# Altium schematic symbol library keypad_encoder.SchLib: 6 symbols
Pins are listed as number, name and electrical type; pins without a type are passive.

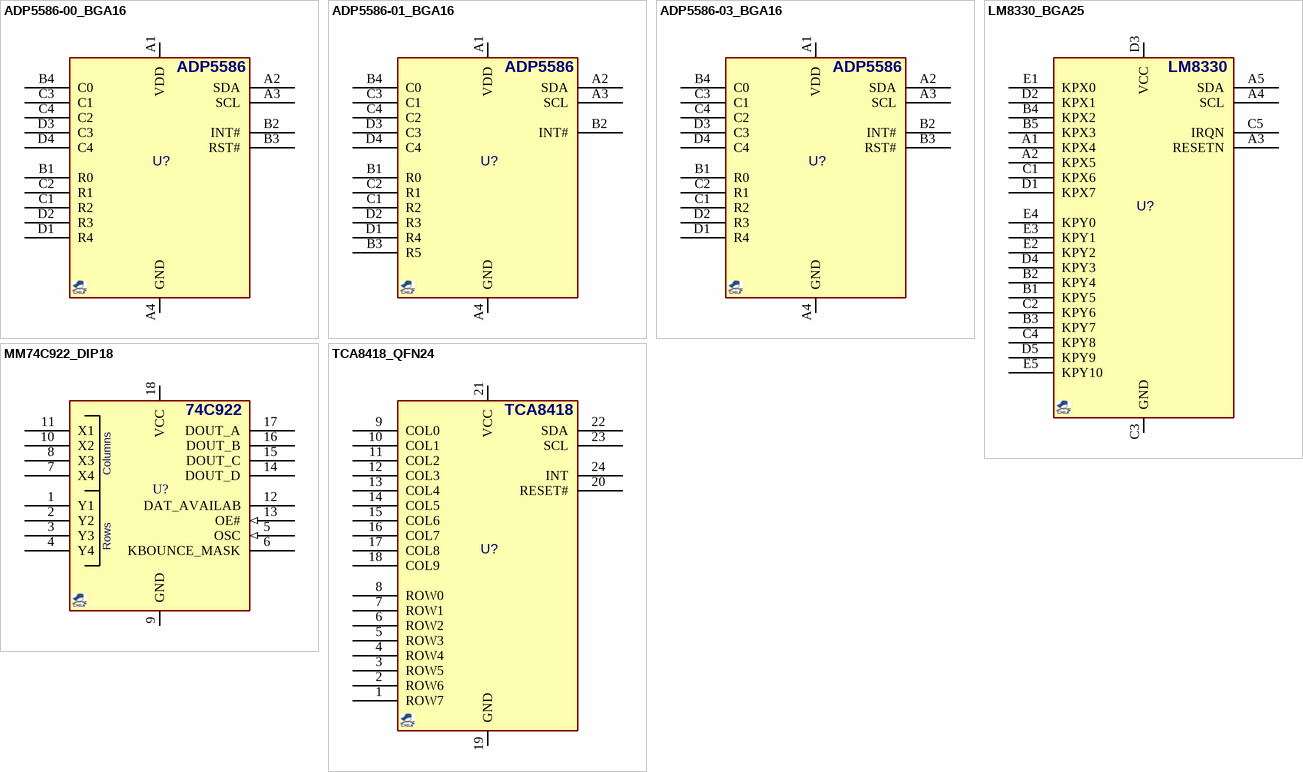
[diagram p0: symbols ADP5586-00_BGA16 to TCA8418_QFN24]

## ADP5586-00_BGA16
designator U?, comment ADP5586  (value not drawn)
IC, Keypad Scan, I2C 1MHz, 8GPIO for 16-key; MANF: Analog Devices; MANF_P#: ADP5586ACBZ-00-R7; PARAM: 8GPIO for 16-key, -40~85°C; PARAM2: 1.8~3.3Vcc; VALUE: ADP5586; PRICE: 2$
footprint BGA40_16 (BGA, CB-16-10, 0.4mm pitch, 1.6x1.6x0.55mm)
pins: A1 VDD, A2 SDA, A3 SCL, A4 GND, B1 R0, B2 INT#, B3 RST#, B4 C0, C1 R2, C2 R1, C3 C1, C4 C2, D1 R4, D2 R3, D3 C3, D4 C4

## ADP5586-01_BGA16
designator U?, comment ADP5586  (value not drawn)
IC, Keypad Scan, I2C 1MHz, 8GPIO for 16-key; MANF: Analog Devices; MANF_P#: ADP5586ACBZ-01-R7; PARAM: 8GPIO for 16-key, -40~85°C; PARAM2: 1.8~3.3Vcc; VALUE: ADP5586; PRICE: 2$
footprint BGA40_16 (BGA, CB-16-10, 0.4mm pitch, 1.6x1.6x0.55mm)
pins: A1 VDD, A2 SDA, A3 SCL, A4 GND, B1 R0, B2 INT#, B3 R5, B4 C0, C1 R2, C2 R1, C3 C1, C4 C2, D1 R4, D2 R3, D3 C3, D4 C4

## ADP5586-03_BGA16
designator U?, comment ADP5586  (value not drawn)
IC, Keypad Scan, I2C 1MHz, 8GPIO for 16-key, 0x30; MANF: Analog Devices; MANF_P#: ADP5586ACBZ-03-R7; PARAM: 8GPIO for 16-key, -40~85°C; PARAM2: 1.8~3.3Vcc; VALUE: ADP5586; PRICE: 2$
footprint BGA40_16 (BGA, CB-16-10, 0.4mm pitch, 1.6x1.6x0.55mm)
pins: A1 VDD, A2 SDA, A3 SCL, A4 GND, B1 R0, B2 INT#, B3 RST#, B4 C0, C1 R2, C2 R1, C3 C1, C4 C2, D1 R4, D2 R3, D3 C3, D4 C4

## LM8330_BGA25
designator U?, comment LM8330  (value not drawn)
IC, Keypad Scan, I2C 400kHz, 8x12 key; MANF: Texas Instruments; MANF_P#: LM8330TM; PARAM: I2C 400kHz, 8x12 key, -30~85°C; PARAM2: 1.8Vcc; VALUE: LM8330; PRICE: 2$
footprint BGA40_25 (BGA, DSBGA, YFQ0025, 0.4mm pitch, 2x2x0.6mm)
pins: A1 KPX4, A2 KPX5, A3 RESETN, A4 SCL, A5 SDA, B1 KPY5, B2 KPY4, B3 KPY7, B4 KPX2, B5 KPX3, C1 KPX6, C2 KPY6, C3 GND, C4 KPY8, C5 IRQN, D1 KPX7, D2 KPX1, D3 VCC, D4 KPY3, D5 KPY9, E1 KPX0, E2 KPY2, E3 KPY1, E4 KPY0, E5 KPY10

## MM74C922_DIP18
designator U?, comment 74C922  (value not drawn)
IC, Key Encoder, 16-Key; MANF: Texas Instruments; MANF_P#: MM74C922N; PARAM2: 3~15VCC; PARAM: 16-key, -40~85oC; PRICE: 10t@PAYA; VALUE: 74C922
footprint DIP_18 (DIP, pitch 2.54mm, 300mil Width)
pins: 1 Y1, 2 Y2, 3 Y3, 4 Y4, 5 OSC (in), 6 KBOUNCE_MASK, 7 X4, 8 X3, 9 GND, 10 X2, 11 X1, 12 DAT_AVAILAB, 13 OE# (in), 14 DOUT_D, 15 DOUT_C, 16 DOUT_B, 17 DOUT_A, 18 VCC
text: Columns; Rows

## TCA8418_QFN24
designator U?, comment TCA8418  (value not drawn)
IC, Keypad Scan, I2C 1MHz, 18GPIO, 80 buttons; MANF: Texas Instruments; MANF_P#: TCA8418RTW; PARAM: 18 GPIO, 80 button, -40~85°C; PARAM2: 1.65~3.6Vcc; VALUE: TCA8418; PRICE: 1.5$
footprint QFN50_24T (RTW, RGE S-PQFP-N24 (TI), HVQFN24, 4X4mm, 0.5mm, MO-220 (JEDEC))
pins: 1 ROW7, 2 ROW6, 3 ROW5, 4 ROW4, 5 ROW3, 6 ROW2, 7 ROW1, 8 ROW0, 9 COL0, 10 COL1, 11 COL2, 12 COL3, 13 COL4, 14 COL5, 15 COL6, 16 COL7, 17 COL8, 18 COL9, 19 GND, 20 RESET#, 21 VCC, 22 SDA, 23 SCL, 24 INT